# Altium schematic symbol library KeyBoard.SchLib: 7 symbols
Pins are listed as number, name and electrical type; pins without a type are passive.

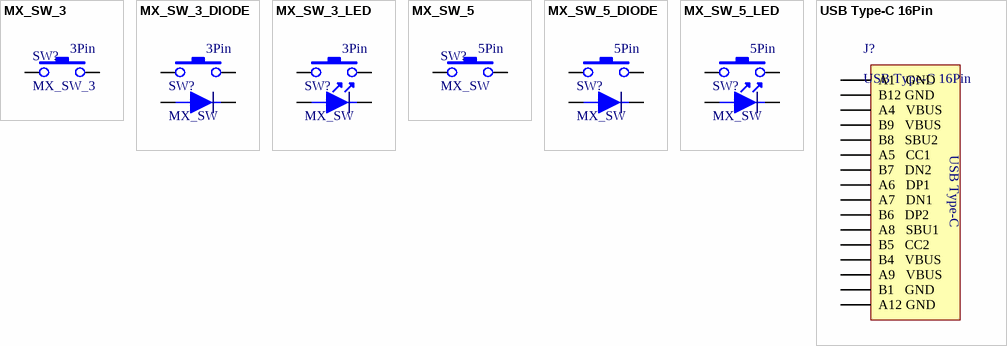
[diagram p0: symbols MX_SW_3 to USB Type-C 16Pin]

## MX_SW_3
designator SW?
without Fixation pins  1-Pole
footprint MX_SW_3 (without Fixation pins  1-Pole)
pins: 1, 2
text: 3Pin

## MX_SW_3_DIODE
designator SW?, comment MX_SW
without Fixation pins  1-Pole w/Diode
footprint MX_SW_3_DIODE (without Fixation pins  1-Pole w/Diode)
pins: 1, 2, 3, 4
text: 3Pin

## MX_SW_3_LED
designator SW?, comment MX_SW
without Fixation pins  1-Pole w/LED
footprint MX_SW_3_LED (without Fixation pins  1-Pole w/LED)
pins: 1, 2, 3, 4
text: 3Pin

## MX_SW_5
designator SW?, comment MX_SW
with Fixation pins  1-Pole
footprint MX_SW_5 (with Fixation pins  1-Pole)
pins: 1, 2
text: 5Pin

## MX_SW_5_DIODE
designator SW?, comment MX_SW
with Fixation pins  1-Pole w/Diode
footprint MX_SW_5_DIODE (with Fixation pins  1-Pole w/Diode)
pins: 1, 2, 3, 4
text: 5Pin

## MX_SW_5_LED
designator SW?, comment MX_SW
with Fixation pins  1-Pole w/LED
footprint MX_SW_5_LED (with Fixation pins  1-Pole w/LED)
pins: 1, 2, 3, 4
text: 5Pin

## USB Type-C 16Pin
designator J?
footprint USB Type-C 16Pin (USB Type-C without USB 3.0)
pins: 1 A1   GND, 1 B12 GND, 2 A4   VBUS, 2 B9   VBUS, 3 B8   SBU2, 4 A5   CC1, 5 B7   DN2, 6 A6   DP1, 7 A7   DN1, 8 B6   DP2, 9 A8   SBU1, 10 B5   CC2, 11 B4   VBUS, 11 A9   VBUS, 12 B1   GND, 12 A12 GND
text: USB Type-C